# Altium footprint library PCB11.PcbLib: 40 footprints (part 3 of 3)
Each footprint in its own frame and in the unit in brackets; x right, y up, seen from the top. Pads: shape width x height; smd on the part's side, far side on the other; paste and mask are expansions set on the pad; w line width, h text height; cw(c..) or ccw(c..) is an arc to the next point about the centre after c.
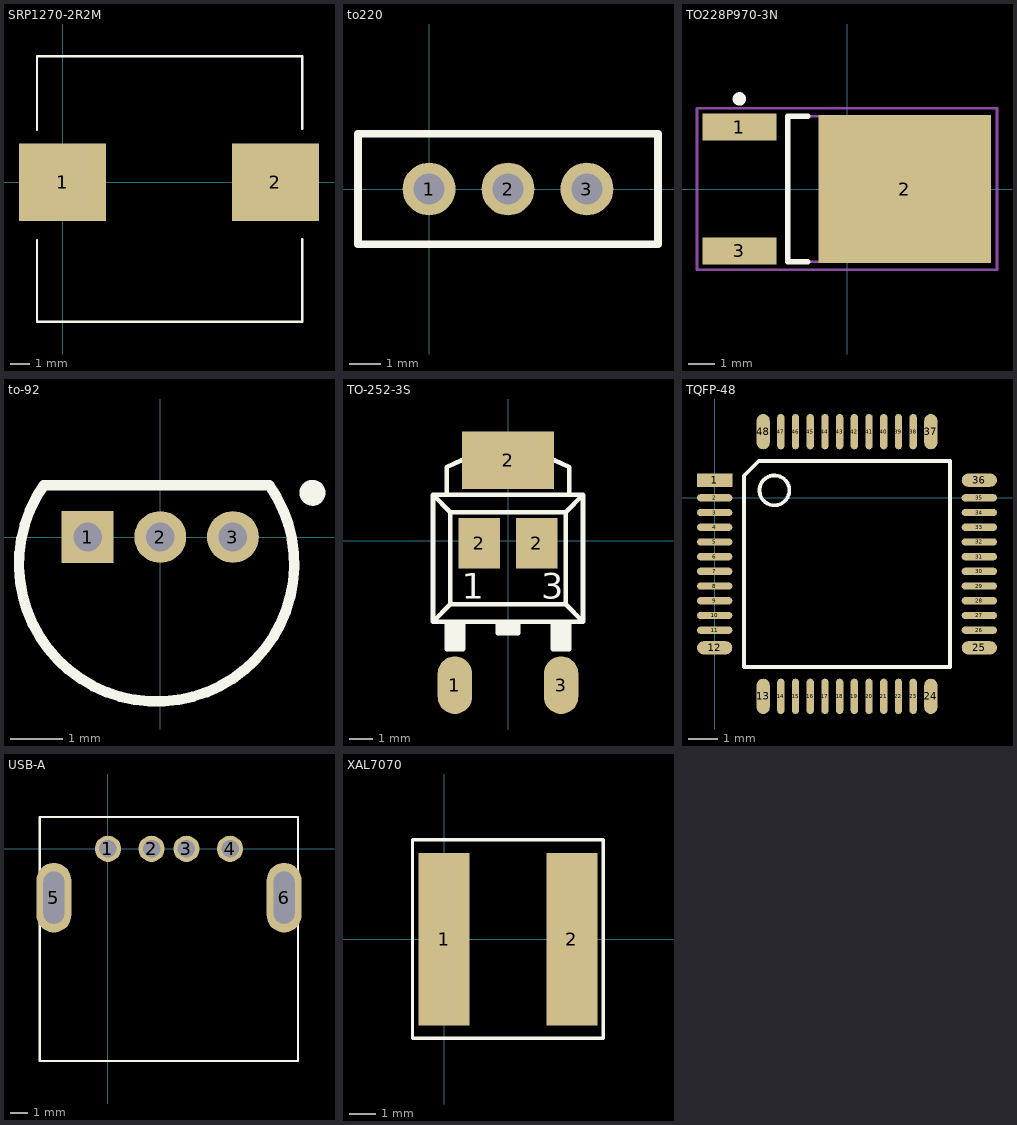
[diagram p2: the footprints below, top view; thin cyan lines are the x and y axes]

## SRP1270-2R2M [mm]
pads (2):
  rect 4.5x4 smd: 1(0,0) 2(11,0)
Top Overlay:
  lines w0.127: -1.321,-2.997 -1.321,-7.214 12.379,-7.214 12.379,-2.956 ; -1.321,2.692 -1.321,6.502 12.379,6.502 12.379,2.753

## to220 [mm]
pads (3):
  round 1.7 hole 1: 1(0,0) 2(2.54,0) 3(5.08,0)
Top Overlay:
  lines w0.254: -2.29,-1.78 -2.29,1.78 7.37,1.78 7.37,-1.78 6.5,-1.78 -2.29,-1.78

## TO228P970-3N [mm]
height 2.38
pads (3):
  rect 2.75x1 smd: 1(-4,2.3) 3(-4,-2.3)
  rect 6.4x5.5 smd: 2(2.15,0)
Top Overlay:
  circle w0.25: c-4,3.35 r0.125
  lines w0.2: -1.45,-2.7 -2.2,-2.7 -2.2,2.7 -1.45,2.7
Mechanical 13:
  lines w0.1: -2.2,-2.7 3.5,-2.7 3.5,2.7 -2.2,2.7 -2.2,-2.7
Mechanical 15:
  lines w0.1: -0.5,0 0.5,0 ; 0,-0.5 0,0.5 ; -5.575,-3 5.575,-3 5.575,3 -5.575,3 -5.575,-3
3D body: height 2.38, standoff 0, extent -2.2,-2.7 3.5,2.7

## to-92 [mm]
height 1.1
pads (3):
  rect 1x1 hole 0.55: 1(-1.4,0)
  round 1 hole 0.55: 2(0,0) 3(1.4,0)
Top Overlay:
  circle w0.25: c2.932,0.851 r0.125
  lines w0.2: -2.242,1 ccw(c-0.071,-0.52) 2.1,1 -2.242,1

## TO-252-3S [mm]
height 1.18
pads (5):
  oval 1.5x2.5 smd: 1(-2.3,-6.25) 3(2.3,-6.25)
  rect 1.8x2.2 smd: 2(-1.25,-0.1) 2(1.25,-0.1)
  rect 4x2.5 smd: 2(0,3.5)
Top Overlay:
  rectangle: -2.65,-4.7 -1.95,-3.5
  rectangle: -0.45,-4 0.45,-3.5
  rectangle: 1.95,-4.7 2.65,-3.5
  lines w0.2: -2.65,-3.5 -2.65,-4.7 -1.95,-4.7 -1.95,-3.5 ; -2.65,2 -2.65,3.2 -2,3.5 2,3.5 2.65,3.2 2.65,2 ; -0.45,-3.5 -0.45,-4 0.45,-4 0.45,-3.5 ; 1.95,-3.5 1.95,-4.7 2.65,-4.7 2.65,-3.5 ; -3.25,-3.5 3.25,-3.5 ; -3.25,-3.5 -3.25,2 ; -3.25,-3.5 -2.5,-2.75 ; -3.25,2 3.25,2 ; -3.25,2 -2.5,1.25 ; -2.5,-2.75 -2.5,1.25 ; -2.5,-2.75 2.5,-2.75 ; -2.5,1.25 2.5,1.25 ; 2.5,1.25 2.5,-2.75 ; 2.5,1.25 3.25,2 ; 2.5,-2.75 3.25,-3.5 ; 3.25,-3.5 3.25,2
  text "3" at 1.45,-2.5 h1.1
  text "1" at -2,-2.5 h1.1

## TQFP-48 [mm]
pads (48):
  rect 1.2x0.45 smd: 1(0,0.6)
  oval 1.2x0.25 smd: 2(0,0) 3(0,-0.5) 4(0,-1) 5(0,-1.5) 6(0,-2) 7(0,-2.5) 8(0,-3) 9(0,-3.5) 10(0,-4) 11(0,-4.5) 26(9,-4.5) 27(9,-4) 28(9,-3.5) 29(9,-3) 30(9,-2.5) 31(9,-2) 32(9,-1.5) 33(9,-1) 34(9,-0.5) 35(9,0)
  oval 1.2x0.45 smd: 12(0,-5.1) 25(9,-5.1) 36(9,0.6)
  oval 0.45x1.2 smd: 13(1.65,-6.75) 24(7.35,-6.75) 37(7.35,2.25) 48(1.65,2.25)
  oval 0.25x1.2 smd: 14(2.25,-6.75) 15(2.75,-6.75) 16(3.25,-6.75) 17(3.75,-6.75) 18(4.25,-6.75) 19(4.75,-6.75) 20(5.25,-6.75) 21(5.75,-6.75) 22(6.25,-6.75) 23(6.75,-6.75) 38(6.75,2.25) 39(6.25,2.25) 40(5.75,2.25) 41(5.25,2.25) 42(4.75,2.25) 43(4.25,2.25) 44(3.75,2.25) 45(3.25,2.25) 46(2.75,2.25) 47(2.25,2.25)
Top Overlay:
  circle w0.127: c2.032,0.254 r0.508
  lines w0.127: 1,-5.75 8,-5.75 8,1.25 1.5,1.25 1,0.75 1,-5.75

## USB-A [mm]
pads (6):
  round 1.5 hole 1: 1(0,0) 2(2.5,0) 3(4.5,0) 4(7,0)
  oval 2x4 hole 1.2 slot 3 at 90 deg: 5(-3.1,-2.8) 6(10.1,-2.8)
Top Overlay:
  lines w0.127: -3.912,-12.171 -3.912,1.829 10.888,1.829 10.888,-12.171 -3.912,-12.171

## XAL7070 [mm]
pads (2):
  rect 1.92x6.5 smd: 1(0,0) 2(4.82,0)
Top Overlay:
  lines w0.127: -1.194,-3.741 6.006,-3.741 6.006,3.759 -1.194,3.759 -1.194,-3.741